# Altium footprint library 2576chandan.PcbLib: 1 footprints
Each footprint in its own frame and in the unit in brackets; x right, y up, seen from the top. Pads: shape width x height; smd on the part's side, far side on the other; paste and mask are expansions set on the pad; w line width, h text height; cw(c..) or ccw(c..) is an arc to the next point about the centre after c.
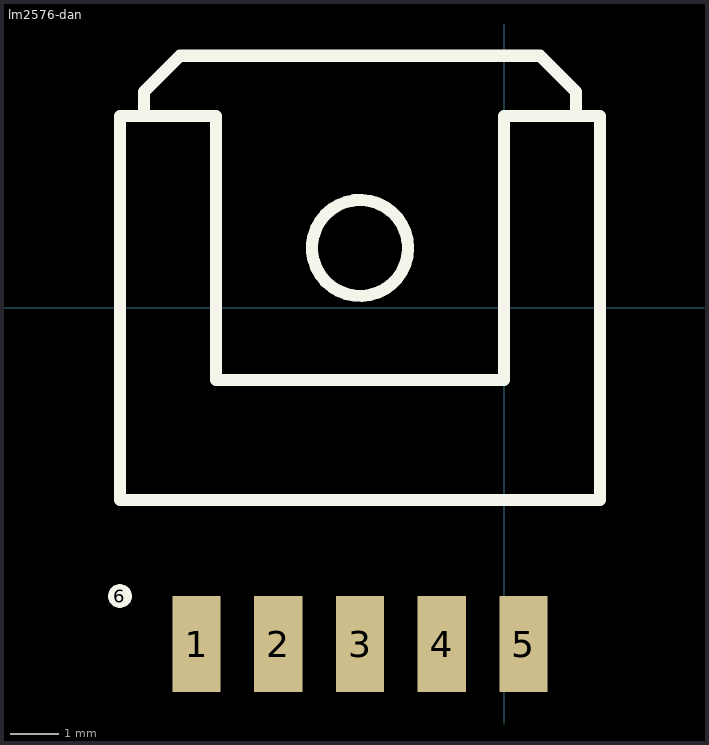
[diagram p0: the footprint, top view; thin cyan lines are the x and y axes]

## lm2576-dan [mm] "lm2576-dan"
pads (6):
  rect 1x2 smd: 1(-6.404,-7) 2(-4.702,-7) 3(-3,-7) 4(-1.298,-7) 5(0.404,-7)
  round 0.5 on Top Overlay: 6(-8,-6)
Top Overlay:
  circle w0.254: c-3,1.25 r1
  lines w0.254: -7.75,4 -8,4 ; -7.5,4 -7.5,4.5 -6.75,5.25 0.75,5.25 1.5,4.5 1.5,4 ; -8,4 -6,4 -6,-1.5 -4,-1.5 -2,-1.5 0,-1.5 0,4 2,4 2,-4 -8,-4 -8,4